# Altium schematic symbol library TBL004V-508-02BE-2GY.SchLib: 1 symbol
Pins are listed as number, name and electrical type; pins without a type are passive.

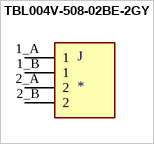
[diagram p0: symbol TBL004V-508-02BE-2GY]

## TBL004V-508-02BE-2GY
designator J
2~24 Poles, Screwless, Vertical, 5.08 Pitch, 24~14 (AWG), Terminal Block Connector; MP: TBL004V-508-02BE-2GY; MF: CUI Devices; Value: *; SnapEDA_Link: https://www.snapeda.com/parts/TBL004V-508-02BE-2GY/CUI%20Devices/view-part/3647771/?ref=snap; Package: None; DigiKey-Purchase-URL: https://snapeda.com/shop?store=DigiKey&id=3647771; CUI_purchase_URL: https://www.cuidevices.com/product/interconnect/connectors/terminal-blocks/tbl004v-508-series?utm_source=snapeda.com&utm_medium=referral&utm_campaign=snapedaBOM; Arrow_Electronics-Purchase-URL: https://snapeda.com/shop?store=Arrow+Electronics&id=3647771; Mouser-Purchase-URL: https://snapeda.com/shop?store=Mouser&id=3647771
footprint CUI_TBL004V-508-02BE-2GY
pins: 1_A 1, 1_B 1, 2_A 2, 2_B 2